# Altium footprint library DF12NB(3.0)-80DP-0.5V.PcbLib: 1 footprints
Each footprint in its own frame and in the unit in brackets; x right, y up, seen from the top. Pads: shape width x height; smd on the part's side, far side on the other; paste and mask are expansions set on the pad; w line width, h text height; cw(c..) or ccw(c..) is an arc to the next point about the centre after c.
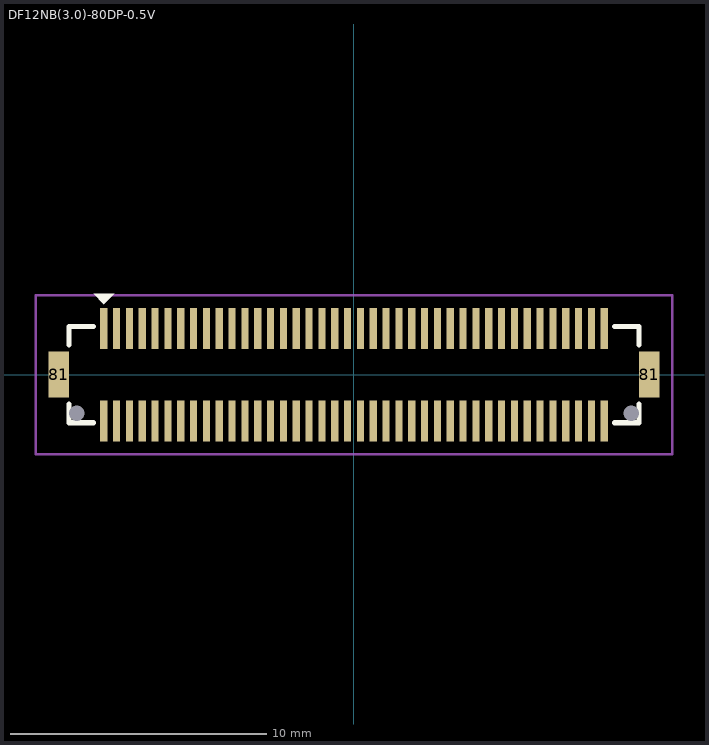
[diagram p0: the footprint, top view; thin cyan lines are the x and y axes]

## DF12NB(3.0)-80DP-0.5V [mm]
pads (84):
  round 0 hole 0.6 unplated: 1(-10.8,-1.5) 1(10.8,-1.5)
  rect 0.28x1.6 smd: 1(-9.75,1.8) 2(-9.75,-1.8) 3(-9.25,1.8) 4(-9.25,-1.8) 5(-8.75,1.8) 6(-8.75,-1.8) 7(-8.25,1.8) 8(-8.25,-1.8) 9(-7.75,1.8) 10(-7.75,-1.8) 11(-7.25,1.8) 12(-7.25,-1.8) 13(-6.75,1.8) 14(-6.75,-1.8) 15(-6.25,1.8) 16(-6.25,-1.8) 17(-5.75,1.8) 18(-5.75,-1.8) 19(-5.25,1.8) 20(-5.25,-1.8) 21(-4.75,1.8) 22(-4.75,-1.8) 23(-4.25,1.8) 24(-4.25,-1.8) 25(-3.75,1.8) 26(-3.75,-1.8) 27(-3.25,1.8) 28(-3.25,-1.8) 29(-2.75,1.8) 30(-2.75,-1.8) 31(-2.25,1.8) 32(-2.25,-1.8) 33(-1.75,1.8) 34(-1.75,-1.8) 35(-1.25,1.8) 36(-1.25,-1.8) 37(-0.75,1.8) 38(-0.75,-1.8) 39(-0.25,1.8) 40(-0.25,-1.8) 41(0.25,1.8) 42(0.25,-1.8) 43(0.75,1.8) 44(0.75,-1.8) 45(1.25,1.8) 46(1.25,-1.8) 47(1.75,1.8) 48(1.75,-1.8) 49(2.25,1.8) 50(2.25,-1.8) 51(2.75,1.8) 52(2.75,-1.8) 53(3.25,1.8) 54(3.25,-1.8) 55(3.75,1.8) 56(3.75,-1.8) 57(4.25,1.8) 58(4.25,-1.8) 59(4.75,1.8) 60(4.75,-1.8) 61(5.25,1.8) 62(5.25,-1.8) 63(5.75,1.8) 64(5.75,-1.8) 65(6.25,1.8) 66(6.25,-1.8) 67(6.75,1.8) 68(6.75,-1.8) 69(7.25,1.8) 70(7.25,-1.8) 71(7.75,1.8) 72(7.75,-1.8) 73(8.25,1.8) 74(8.25,-1.8) 75(8.75,1.8) 76(8.75,-1.8) 77(9.25,1.8) 78(9.25,-1.8) 79(9.75,1.8) 80(9.75,-1.8)
  rect 0.8x1.8 smd: 81(-11.5,0) 81(11.5,0)
Top Overlay:
  region: -10.15,3.15 -9.35,3.15 -9.75,2.75
  lines w0.2: -11.1,-1.15 -11.1,-1.875 -10.15,-1.875 ; -11.1,1.15 -11.1,1.875 -10.15,1.875 ; 10.15,-1.875 11.1,-1.875 11.1,-1.15 ; 10.15,1.875 11.1,1.875 11.1,1.15
Top Courtyard:
  lines w0.1: -12.4,-3.1 12.4,-3.1 12.4,3.1 -12.4,3.1 -12.4,-3.1
3D body "DF12NB(3.0)-80DP.stp": height 2.3, standoff 0, extent -11.55,-2.3 11.55,2.3